# Altium footprint library Circadian2-V2.PcbLib: 7 footprints
Each footprint in its own frame and in the unit in brackets; x right, y up, seen from the top. Pads: shape width x height; smd on the part's side, far side on the other; paste and mask are expansions set on the pad; w line width, h text height; cw(c..) or ccw(c..) is an arc to the next point about the centre after c.
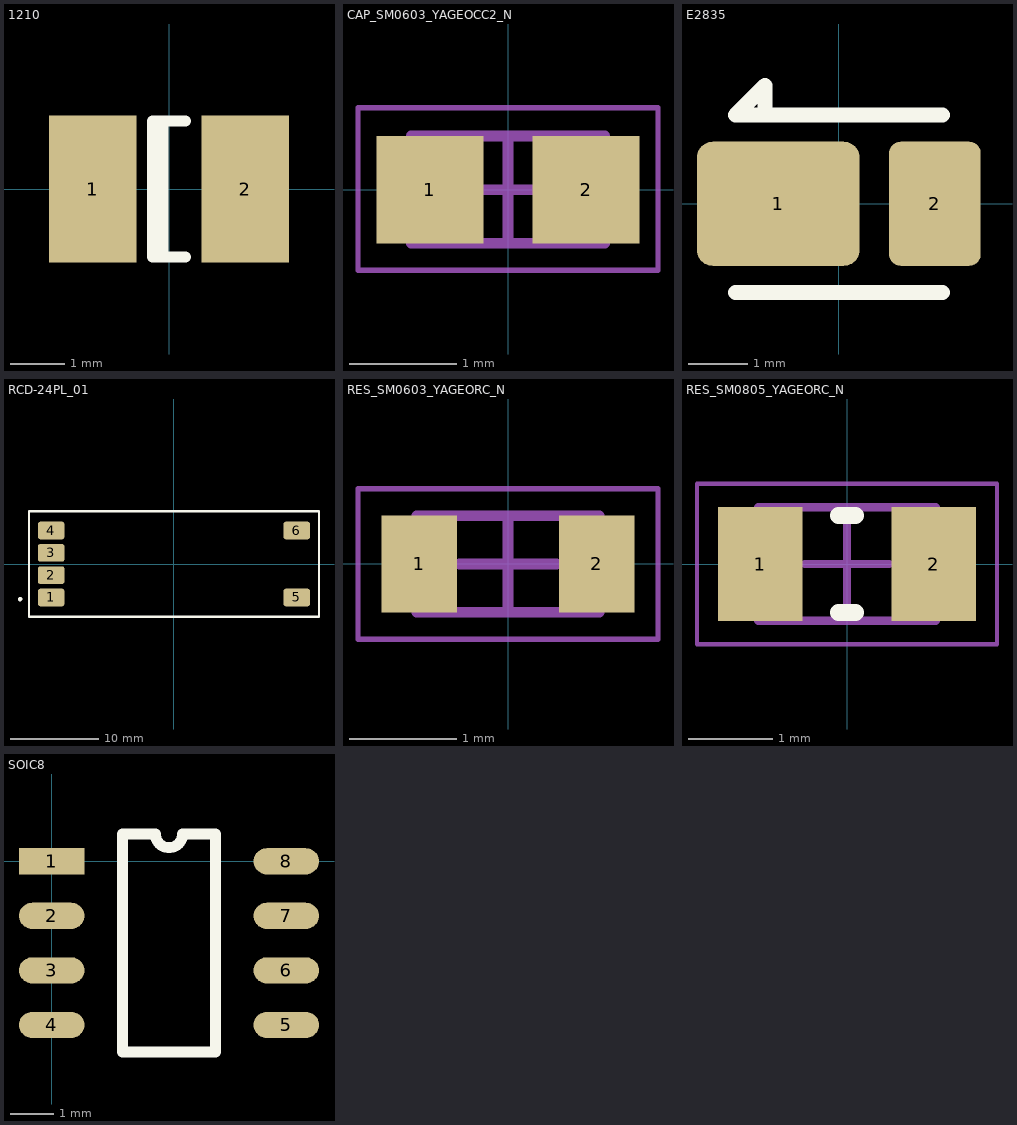
[diagram p0: the footprints below, top view; thin cyan lines are the x and y axes]

## 1210 [mm]
pads (2):
  rect 1.6x2.7 smd: 1(-1.4,0) 2(1.4,0)
Top Overlay:
  lines w0.2: -0.11,-1.25 -0.11,1.25 ; 0.3,-1.25 -0.3,-1.25 -0.3,1.25 0.3,1.25

## CAP_SM0603_YAGEOCC2_N [mm]
pads (2):
  rect 1x1 smd: 1(-0.727,0) 2(0.727,0)
Mechanical 13:
  lines w0.1: -0.9,-0.5 -0.9,0.5 0.9,0.5 0.9,-0.5 -0.9,-0.5
Mechanical 15:
  lines w0.05: -1.397,-0.75 -1.397,0.762 1.397,0.762 1.397,-0.75 -1.397,-0.75
  lines w0.1: -0.5,0 0.5,0 ; 0,-0.5 0,0.5
3D body: height 0.9, standoff 0, extent -0.5,-0.5 0.5,0.5
3D body: height 0.9, standoff 0, extent -0.9,-0.5 -0.5,0.5
3D body: height 0.9, standoff 0, extent 0.5,-0.5 0.9,0.5

## E2835 [mm]
pads (2):
  rrect25% 2.75x2.1 smd: 1(-1.025,0)
  rrect25% 1.55x2.1 smd: 2(1.625,0)
Top Overlay:
  lines w0.254: -1.75,-1.5 1.75,-1.5 ; -1.25,1.5 -1.25,2 -1.75,1.5 1.75,1.5
3D body "Osram LED.STEP": height 0.65, standoff 0, extent -1.75,-1.4 1.75,1.4

## RCD-24PL_01 [mm]
pads (6):
  rrect25% 3x2 smd: 1(-13.97,-3.81) 2(-13.97,-1.27) 3(-13.97,1.27) 4(-13.97,3.81) 5(13.97,-3.81) 6(13.97,3.81)
Top Overlay:
  circle w0.254: c-17.5,-4 r0.127
  lines w0.254: -16.5,-6 16.5,-6 16.5,6 -16.5,6 -16.5,-6
3D body "Part1.STEP": height 5.6, standoff 0, extent -15.5,-5.7 15.5,5.7

## RES_SM0603_YAGEORC_N [mm]
pads (2):
  rect 0.7x0.9 smd: 1(-0.827,0) 2(0.827,0)
Mechanical 13:
  lines w0.1: -0.85,-0.45 -0.85,0.45 0.85,0.45 0.85,-0.45 -0.85,-0.45
Mechanical 15:
  lines w0.05: -1.397,-0.7 -1.397,0.7 1.397,0.7 1.397,-0.7 -1.397,-0.7
  lines w0.1: -0.45,0 0.45,0 ; 0,-0.45 0,0.45
3D body: height 0.55, standoff 0, extent -0.6,-0.45 0.6,0.45
3D body: height 0.55, standoff 0, extent -0.85,-0.45 -0.6,0.45
3D body: height 0.55, standoff 0, extent 0.6,-0.45 0.85,0.45

## RES_SM0805_YAGEORC_N [mm]
pads (2):
  rect 1x1.35 smd: 1(-1.027,0) 2(1.027,0)
Top Overlay:
  lines w0.2: -0.1,-0.575 0.1,-0.575 ; -0.1,0.575 0.1,0.575
Mechanical 13:
  lines w0.1: -1.05,-0.675 1.05,-0.675 1.05,0.675 -1.05,0.675 -1.05,-0.675
Mechanical 15:
  lines w0.05: -1.778,-0.95 1.778,-0.95 1.778,0.95 -1.778,0.95 -1.778,-0.95
  lines w0.1: -0.5,0 0.5,0 ; 0,-0.5 0,0.5
3D body: height 0.6, standoff 0, extent 0.7,-0.675 1.05,0.675
3D body: height 0.6, standoff 0, extent -1.05,-0.675 -0.7,0.675
3D body: height 0.6, standoff 0, extent -0.7,-0.675 0.7,0.675

## SOIC8 [mil]
pads (8):
  rect 60x24 smd: 1(0,0)
  oval 60x24 smd: 2(0,-50) 3(0,-100) 4(0,-150) 5(215,-150) 6(215,-100) 7(215,-50) 8(215,0)
Top Overlay:
  lines w10: 65,-175 150,-175 150,25 120,25 cw(c107.5,25) 95,25 65,25 65,-175
3D body "SOIC8.step": height 54.61, standoff -0.45, extent -6.22,-167.91 226.22,25